# EAGLE library part 10164359-00011LF (library 10164359-00011LF)
USB Type C Receptacle SMT Single Row 6Pin Source: Datasheet <https://cdn.amphenol-cs.com/media/wysiwyg/files/drawing/10164359.pdf>
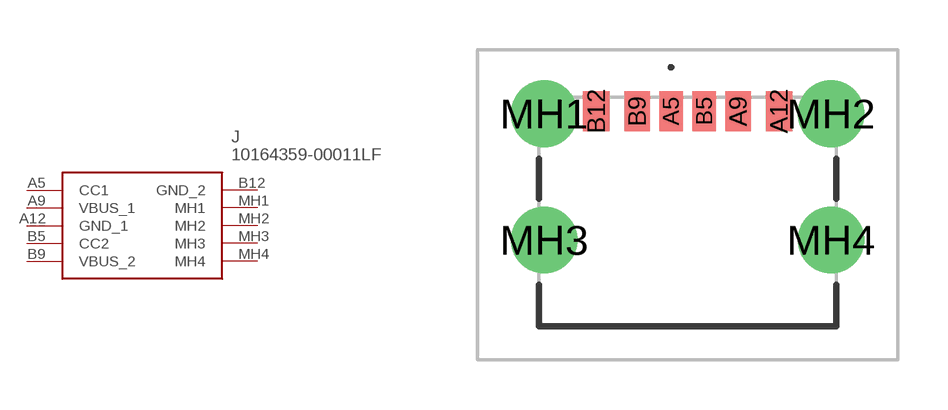
[diagram p0: symbol with the pads of 1016435900011LF; footprint 1016435900011LF]

Designator prefix J

## 10164359-00011LF (Description: USB Type C Receptacle SMT Single Row 6Pin; Height: 3.41mm; Manufacturer_Name: Amphenol; Manufacturer_Part_Number: 10164359-00011LF; Mouser_Part_Number: 649-10164359-00011LF; Mouser_Price-Stock: https://www.mouser.co.uk/ProductDetail/Amphenol-FCI/10164359-00011LF?qs=MyNHzdoqoQLpQ%2FmSqA1%252BtQ%3D%3D)  [1016435900011LF]
A5  CC1
A9  VBUS_1
A12  GND_1
B5  CC2
B9  VBUS_2
B12  GND_2
MH1  MH1
MH2  MH2
MH3  MH3
MH4  MH4

## Footprint 1016435900011LF (pad centres in mm)
10164359-00011LF-1
smd 0.7 x 1.2: A5 -0.5,3.03; B5 0.5,3.03
smd 0.76 x 1.2: A9 1.52,3.03; B9 -1.52,3.03
smd 0.8 x 1.2: A12 2.75,3.03; B12 -2.75,3.03
drill 1.34 pad 1.85: MH1 -4.32,2.95; MH2 4.32,2.95
drill 1.34 pad 2.01: MH3 -4.32,-0.85; MH4 4.32,-0.85